# Altium footprint library Optoisolators.PcbLib: 1 footprints
Each footprint in its own frame and in the unit in brackets; x right, y up, seen from the top. Pads: shape width x height; smd on the part's side, far side on the other; paste and mask are expansions set on the pad; w line width, h text height; cw(c..) or ccw(c..) is an arc to the next point about the centre after c.
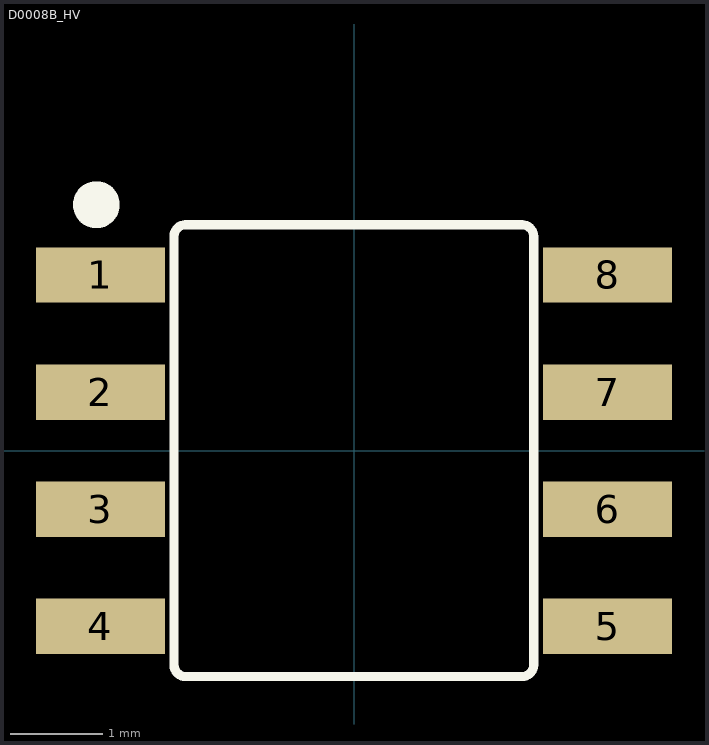
[diagram p0: the footprint, top view; thin cyan lines are the x and y axes]

## D0008B_HV [mm]
pads (8):
  rect 1.4x0.6 smd paste+0 mask+0.051: 1(-2.75,1.905) 2(-2.75,0.635) 3(-2.75,-0.635) 4(-2.75,-1.905) 5(2.75,-1.905) 6(2.75,-0.635) 7(2.75,0.635) 8(2.75,1.905)
Top Overlay:
  circle w0.254: c-2.794,2.667 r0.127
  lines w0.1: -1.952,-2.324 ccw(c-1.825,-2.323) -1.826,-2.45 ; -1.952,-2.323 -1.952,2.323 ; -1.952,2.324 cw(c-1.825,2.323) -1.826,2.45 ; -1.825,-2.45 0.328,-2.45 1.821,-2.45 ; -1.825,2.45 -0.332,2.45 -0.182,2.45 0.178,2.45 0.328,2.45 1.821,2.45 ; 1.822,-2.45 ccw(c1.821,-2.323) 1.948,-2.324 ; 1.822,2.45 cw(c1.821,2.323) 1.948,2.324 ; 1.948,-2.323 1.948,2.323
3D body "D0008B.stp": height 1.63, standoff 0, extent -3.011,-2.451 3.011,2.451